# Altium schematic symbol library 60 Ohm Resistor, ERJ-3EKF6042V.SchLib: 2 symbols
Pins are listed as number, name and electrical type; pins without a type are passive.

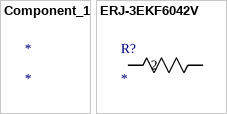
[diagram p0: symbols Component_1 to ERJ-3EKF6042V]

## Component_1
designator *

## ERJ-3EKF6042V
designator R?
Imported; Manufacturer_Part_Number: ERJ-3EKF6042V; Vendor: Panasonic; Built_By: EMA_UL_Team; C: Copyright (C) 2015 Accelerated Designs. All rights reserved; Value: Value
footprint RC0603N
pins: 1, 2